# EAGLE library part LTM2881 (library parts)
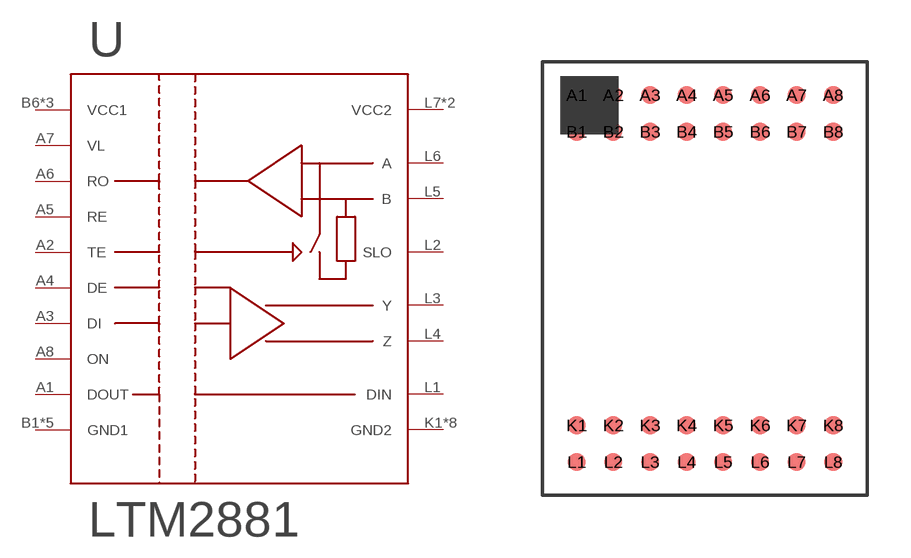
[diagram p2: symbol with the pads of LTM2881-BGA32; footprint LTM2881-BGA32]

Designator prefix -

## LTM2881  [LTM2881-BGA32]
A1  DOUT
A2  TE
A3  DI
A4  DE
A5  RE
A6  RO
A7  VL
A8  ON
B1  GND1
B2  GND1
B3  GND1
B4  GND1
B5  GND1
B6  VCC1
B7  VCC1
B8  VCC1
K1  GND2
K2  GND2
K3  GND2
K4  GND2
K5  GND2
K6  GND2
K7  GND2
K8  GND2
L1  DIN
L2  SLO
L3  Y
L4  Z
L5  B
L6  A
L7  VCC2
L8  VCC2

## Footprint LTM2881-BGA32 (pad centres in mm)
smd 0.63 x 0.63: A1 -4.445,6.35; A2 -3.175,6.35; A3 -1.905,6.35; A4 -0.635,6.35; A5 0.635,6.35; A6 1.905,6.35; A7 3.175,6.35; A8 4.445,6.35; B1 -4.445,5.08; B2 -3.175,5.08; B3 -1.905,5.08; B4 -0.635,5.08; B5 0.635,5.08; B6 1.905,5.08; B7 3.175,5.08; B8 4.445,5.08; K1 -4.445,-5.08; K2 -3.175,-5.08; K3 -1.905,-5.08; K4 -0.635,-5.08; K5 0.635,-5.08; K6 1.905,-5.08; K7 3.175,-5.08; K8 4.445,-5.08; L1 -4.445,-6.35; L2 -3.175,-6.35; L3 -1.905,-6.35; L4 -0.635,-6.35; L5 0.635,-6.35; L6 1.905,-6.35; L7 3.175,-6.35; L8 4.445,-6.35